# Altium footprint library P10_ATMEGA328P.PcbLib: 14 footprints
Each footprint in its own frame and in the unit in brackets; x right, y up, seen from the top. Pads: shape width x height; smd on the part's side, far side on the other; paste and mask are expansions set on the pad; w line width, h text height; cw(c..) or ccw(c..) is an arc to the next point about the centre after c.
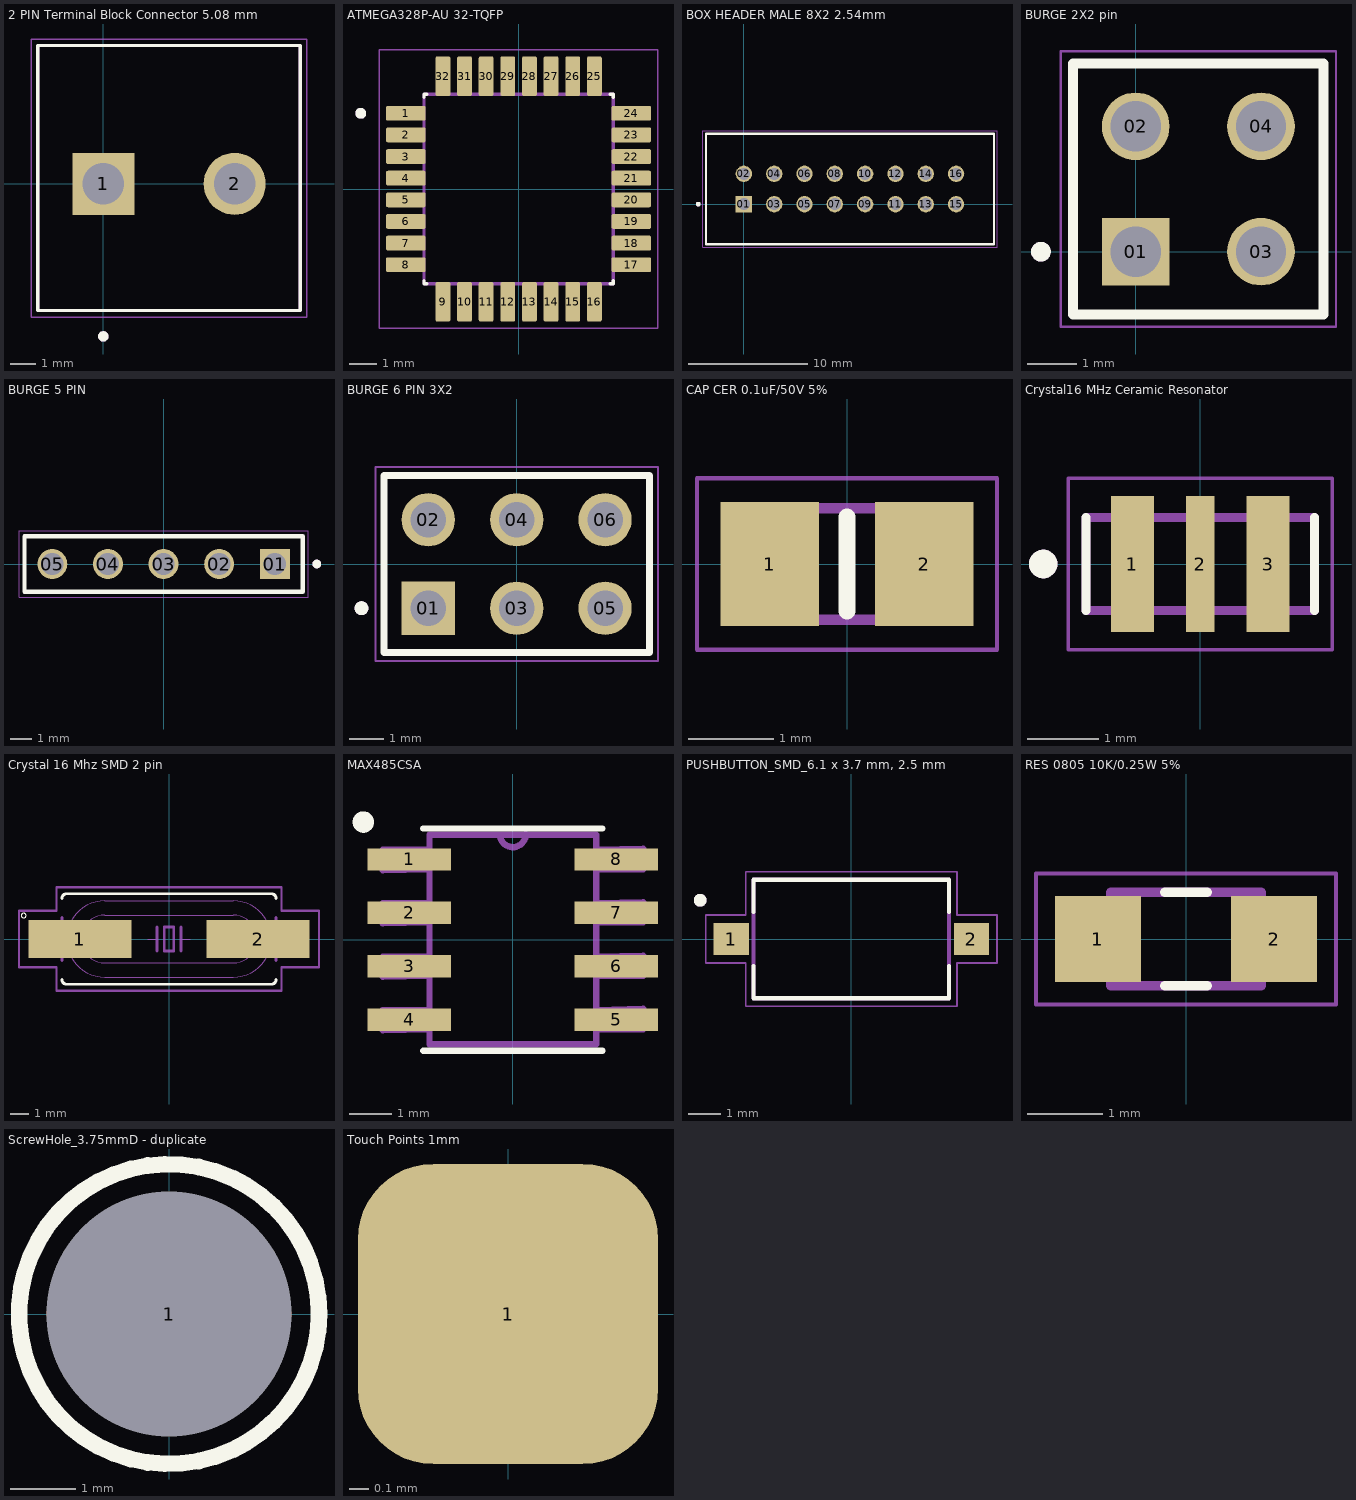
[diagram p0: the footprints below, top view; thin cyan lines are the x and y axes]

## 2 PIN Terminal Block Connector 5.08 mm [mm]
pads (2):
  rect 2.4x2.4 / inner round 2.4 / far side rect 2.4x2.4 hole 1.6: 1(0,0)
  round 2.4 hole 1.6: 2(5.08,0)
Top Overlay:
  circle w0.2: c0,-5.9 r0.1
  lines w0.127: -2.54,-4.9 -2.54,5.35 7.62,5.35 7.62,-4.9 -2.54,-4.9
Mechanical 13:
  circle w0.2: c0,-5.9 r0.1
  lines w0.127: -2.54,-4.9 -2.54,5.35 7.62,5.35 7.62,-4.9 -2.54,-4.9
Mechanical 15:
  lines w0.05: -2.79,-5.15 7.87,-5.15 7.87,5.6 -2.79,5.6 -2.79,-5.15
3D body "step_temp.STEP": height 14, standoff -3.7, extent -2.586,-5.17 8.174,5.08

## ATMEGA328P-AU 32-TQFP [mm] "AVR AVRÂ® ATmega Microcontroller IC 8-Bit 20MHz 32KB (16K x 16) FLASH 32-TQFP (7x7)QFP80P900X900X120-32N"
height 1.2
pads (32):
  rrect25% 1.47x0.55 smd: 1(-4.17,2.8) 2(-4.17,2) 3(-4.17,1.2) 4(-4.17,0.4) 5(-4.17,-0.4) 6(-4.17,-1.2) 7(-4.17,-2) 8(-4.17,-2.8) 17(4.17,-2.8) 18(4.17,-2) 19(4.17,-1.2) 20(4.17,-0.4) 21(4.17,0.4) 22(4.17,1.2) 23(4.17,2) 24(4.17,2.8)
  rrect25% 0.55x1.47 smd: 9(-2.8,-4.17) 10(-2,-4.17) 11(-1.2,-4.17) 12(-0.4,-4.17) 13(0.4,-4.17) 14(1.2,-4.17) 15(2,-4.17) 16(2.8,-4.17) 25(2.8,4.17) 26(2,4.17) 27(1.2,4.17) 28(0.4,4.17) 29(-0.4,4.17) 30(-1.2,4.17) 31(-2,4.17) 32(-2.8,4.17)
Top Overlay:
  circle w0.2: c-5.84,2.8 r0.1
  lines w0.127: -3.5,-3.395 -3.5,-3.5 -3.395,-3.5 ; -3.5,3.395 -3.5,3.5 -3.395,3.5 ; 3.395,-3.5 3.5,-3.5 3.5,-3.395 ; 3.395,3.5 3.5,3.5 3.5,3.395
Mechanical 13:
  circle w0.2: c-5.84,2.8 r0.1
  lines w0.127: -3.5,-3.5 -3.5,3.5 3.5,3.5 3.5,-3.5 -3.5,-3.5
Mechanical 15:
  lines w0.05: -5.155,-5.155 -5.155,5.155 5.155,5.155 5.155,-5.155 -5.155,-5.155
3D body "step_temp.STEP": height 1.2, standoff 0, extent -4.5,-4.5 4.5,4.5

## BOX HEADER MALE 8X2 2.54mm [mm] "BOX HEADER MALE 8X2 2.54mm 16 pin"
pads (16):
  rect 1.37x1.37 hole 1.02: 01(0,0)
  round 1.37 hole 1.02: 02(0,2.54) 03(2.54,0) 04(2.54,2.54) 05(5.08,0) 06(5.08,2.54) 07(7.62,0) 08(7.62,2.54) 09(10.16,0) 10(10.16,2.54) 11(12.7,0) 12(12.7,2.54) 13(15.24,0) 14(15.24,2.54) 15(17.78,0) 16(17.78,2.54)
Top Overlay:
  circle w0.2: c-3.825,0 r0.1
  lines w0.2: -3.175,-3.365 20.955,-3.365 20.955,5.905 -3.175,5.905 -3.175,-3.365
Mechanical 13:
  circle w0.2: c-3.825,0 r0.1
  lines w0.1: -3.175,-3.365 20.955,-3.365 20.955,5.905 -3.175,5.905 -3.175,-3.365
Mechanical 15:
  lines w0.05: -3.425,-3.615 21.205,-3.615 21.205,6.155 -3.425,6.155 -3.425,-3.615

## BURGE 2X2 pin [mm] "Connector Header Through Hole 4 position 0.100 (2.54mm), 4X2 PIN"
pads (4):
  rect 1.37x1.37 hole 1.02: 01(0,0)
  round 1.37 hole 1.02: 02(0,2.54) 03(2.54,0) 04(2.54,2.54)
Top Overlay:
  circle w0.2: c-1.92,0 r0.1
  lines w0.2: -1.27,-1.27 3.81,-1.27 3.81,3.81 -1.27,3.81 -1.27,-1.27
Mechanical 13:
  circle w0.2: c-1.92,0 r0.1
  lines w0.1: -1.27,-1.27 3.81,-1.27 3.81,3.81 -1.27,3.81 -1.27,-1.27
Mechanical 15:
  lines w0.05: -1.52,-1.52 4.06,-1.52 4.06,4.06 -1.52,4.06 -1.52,-1.52

## BURGE 5 PIN [mm] "MTSW-105-07-T-S-048 BURGE 5 PIN 2.54mm"
pads (5):
  rect 1.37x1.37 hole 1.02: 01(5.08,0)
  round 1.37 hole 1.02: 02(2.54,0) 03(0,0) 04(-2.54,0) 05(-5.08,0)
Top Overlay:
  circle w0.2: c7,0 r0.1
  lines w0.2: -6.35,-1.27 6.35,-1.27 6.35,1.27 -6.35,1.27 -6.35,-1.27
Mechanical 13:
  circle w0.2: c7,0 r0.1
  lines w0.1: -6.35,-1.27 -6.35,1.27 ; -6.35,-1.27 6.35,-1.27 ; -6.35,-1.27 -6.35,1.27 ; -6.35,1.27 6.35,1.27 ; -6.35,1.27 6.35,1.27 ; 6.35,-1.27 6.35,1.27 ; 6.35,-1.27 6.35,1.27
Mechanical 15:
  lines w0.05: -6.6,-1.52 6.6,-1.52 6.6,1.52 -6.6,1.52 -6.6,-1.52

## BURGE 6 PIN 3X2 [mm] "MTSW-103-X-X-D-X BURGE 6 PIN 3X2 2.54MM"
pads (6):
  rect 1.53x1.53 / inner round 1.53 / far side rect 1.53x1.53 hole 1.02: 01(-2.54,-1.27)
  round 1.53 hole 1.02: 02(-2.54,1.27) 03(0,-1.27) 04(0,1.27) 05(2.54,-1.27) 06(2.54,1.27)
Top Overlay:
  circle w0.2: c-4.46,-1.27 r0.1
  lines w0.2: -3.81,-2.54 3.81,-2.54 3.81,2.54 -3.81,2.54 -3.81,-2.54
Mechanical 13:
  circle w0.2: c-4.46,-1.27 r0.1
  lines w0.1: -3.81,-2.54 -3.81,2.54 3.81,2.54 3.81,-2.54 -3.81,-2.54
Mechanical 15:
  lines w0.05: -4.06,-2.79 4.06,-2.79 4.06,2.79 -4.06,2.79 -4.06,-2.79

## CAP CER 0.1uF/50V 5% [mm]
pads (2):
  rect 1.15x1.45 smd: 1(-0.9,0) 2(0.9,0)
Top Overlay:
  lines w0.2: 0,-0.55 0,0.55
Mechanical 13:
  region: -0.5,-0.65 -1,-0.65 -1,0.65 -0.5,0.65
  region: 1,-0.65 0.5,-0.65 0.5,0.65 1,0.65
  lines w0.127: -1,-0.65 1,-0.65 1,0.65 -1,0.65 -1,-0.65
Mechanical 15:
  lines w0.05: -1.75,-1 1.75,-1 1.75,1 -1.75,1 -1.75,-1
3D body "step_temp.STEP": height 1.35, standoff 0, extent -1,-0.625 1,0.625

## Crystal16 MHz Ceramic Resonator [mm] "Crystal 16 MHz Ceramic Resonator Built in Capacitor 15 pF Â±0.3% -20Â°C ~ 80Â°C Surface Mount-CSTCE16M0V53-R0CSTCE16M0V53-R0"
pads (3):
  rect 0.6x1.9 smd: 1(-0.95,0) 3(0.95,0)
  rect 0.4x1.9 smd: 2(0,0)
Top Overlay:
  circle w0.2: c-2.2,0 r0.1
  lines w0.127: -1.6,-0.65 -1.6,0.65 ; 1.6,-0.65 1.6,0.65
Mechanical 13:
  circle w0.2: c-2.2,0 r0.1
  lines w0.127: -1.6,-0.65 -1.6,0.65 1.6,0.65 1.6,-0.65 -1.6,-0.65
Mechanical 15:
  lines w0.05: -1.85,-1.2 -1.85,1.2 1.85,1.2 1.85,-1.2 -1.85,-1.2
3D body "step_temp.STEP": height 1, standoff 0, extent -1.6,-0.65 1.6,0.65

## Crystal 16 Mhz SMD 2 pin [mm] "16 MHz Â±30ppm Crystal 20pF 60 Ohms HC-49/US FOXSDLF/128-20 16 Mhz Crystal SMD –CSM-4ALX(28ALX) 12.5mmX4.85mmX4mm"
pads (2):
  rect 5.5x2 smd: 1(-4.75,0) 2(4.75,0)
Top Overlay:
  circle w0: c-7.75,1.25 r0.127
  lines w0.152: -5.715,-2.159 ccw(c-5.461,-2.159) -5.461,-2.413 5.461,-2.413 ccw(c5.461,-2.159) 5.715,-2.159 ; -5.715,2.159 cw(c-5.461,2.159) -5.461,2.413 5.461,2.413 cw(c5.461,2.159) 5.715,2.159
Mechanical 13:
  lines w0.051: -1.143,0 -0.635,0 ; 0.635,0 1.143,0 ; -5.114,-1.136 cw(c-3.429,0) -5.114,1.136 cw(c-3.429,0) -3.429,2.032 3.429,2.032 cw(c3.429,0) 5.114,1.136 cw(c3.429,0) 5.114,-1.136 cw(c3.429,0) 3.429,-2.032 -3.429,-2.032 cw(c-3.429,0) -5.114,-1.136 ; -3.986,-1.141 cw(c-3.429,0) -3.986,1.141 cw(c-3.429,0) -3.429,1.27 3.429,1.27 cw(c3.429,0) 3.986,1.141 cw(c3.429,0) 3.986,-1.141 cw(c3.429,0) 3.429,-1.27 -3.429,-1.27 cw(c-3.429,0) -3.986,-1.141
  lines w0.152: -5.715,-1.143 -5.715,1.143 ; -5.715,-0.381 -6.477,-0.381 -6.477,0.381 -5.715,0.381 ; -0.635,-0.635 -0.635,0 -0.635,0.635 ; 0.635,-0.635 0.635,0 0.635,0.635 ; 5.715,-1.143 5.715,-0.381 ; 5.715,1.143 5.715,0.381 ; 5.715,-0.381 6.477,-0.381 6.477,0.381 5.715,0.381 ; 5.715,-0.381 5.715,0.381 ; -0.254,-0.635 0.254,-0.635 0.254,0.635 -0.254,0.635 -0.254,-0.635
Mechanical 15:
  lines w0.127: -8,-1.5 -6,-1.5 -6,-2.75 6,-2.75 6,-1.5 8,-1.5 8,1.5 6,1.5 6,2.75 -6,2.75 -6,1.5 -8,1.5 -8,-1.5
3D body "step_temp.STEP": height 4.5, standoff 0, extent -6.75,-2.5 6.75,2.5

## MAX485CSA [mil] "MAX485CSA-RS-485/RS-422 Transceivers, SOIC-8"
pads (8):
  rect 78x21 smd: 1(-97,75) 2(-97,25) 3(-97,-25) 4(-97,-75) 5(97,-75) 6(97,-25) 7(97,25) 8(97,75)
Top Overlay:
  circle w10: c-140,110 r5
  lines w6: -84,-104 84,-104 ; -84,104 84,104
Mechanical 13:
  lines w6: -12,98.08 ccw(c0,98.5) 12,98.92 ; -122,-85 -122,-66 -78,-66 -78,-84 -122,-85 ; -122,-35 -122,-16 -78,-16 -78,-34 -122,-35 ; -122,15 -122,34 -78,34 -78,16 -122,15 ; -122,65 -122,84 -78,84 -78,66 -122,65 ; -78,-98 78,-98 78,98 -12,98 -78,98 -78,-98 ; 78,-84 78,-66 122,-65 122,-84 78,-84 ; 78,-34 78,-16 122,-15 122,-34 78,-34 ; 78,16 78,34 122,35 122,16 78,16 ; 78,66 78,84 122,85 122,66 78,66
3D body "step_temp.STEP": height 68.9, standoff 0, extent -118.11,-96.46 118.11,96.46

## PUSHBUTTON_SMD_6.1 x 3.7 mm, 2.5 mm [mm] "6.1 x 3.7 mm, 2.5 mm Actuator Height, 260 gf, Red, Surface Mount, SPST, Tactile Switch, TS09-63-25-R-260-SMT-TR"
height 2.5
pads (2):
  rect 1.1x1 smd: 1(-3.75,0) 2(3.75,0)
Top Overlay:
  circle w0.2: c-4.72,1.21 r0.1
  lines w0.127: -3.05,-0.85 -3.05,-1.85 3.05,-1.85 3.05,-0.85 ; -3.05,0.85 -3.05,1.85 3.05,1.85 3.05,0.85
Mechanical 13:
  circle w0.2: c-4.72,1.21 r0.1
  lines w0.127: -3.05,-1.85 3.05,-1.85 3.05,1.85 -3.05,1.85 -3.05,-1.85
Mechanical 15:
  lines w0.05: -4.55,-0.75 -4.55,0.75 -3.3,0.75 -3.3,2.1 3.3,2.1 3.3,0.75 4.55,0.75 4.55,-0.75 3.3,-0.75 3.3,-2.1 -3.3,-2.1 -3.3,-0.75 -4.55,-0.75
3D body "step_temp.STEP": height 2.5, standoff -0.05, extent -4.05,-1.85 4.05,1.85

## RES 0805 10K/0.25W 5% [mm] "RESISTOR, THICK FILM, 10K, 5%, 0805, FRESISTOR, THICK FILM, 10K, 5%, 0805, FULL REEL Product Range:PANASONIC - ERJ Series"
height 0.55
pads (2):
  rect 1.15x1.15 smd: 1(-1.175,0) 2(1.175,0)
Top Overlay:
  lines w0.127: -0.28,-0.625 0.28,-0.625 ; -0.28,0.625 0.28,0.625
Mechanical 13:
  lines w0.127: -1,-0.625 -1,0.625 1,0.625 1,-0.625 -1,-0.625
Mechanical 15:
  lines w0.05: -2,-0.875 -2,0.875 2,0.875 2,-0.875 -2,-0.875
3D body "step_temp.STEP": height 0.7, standoff 0, extent -1,-0.625 1,0.625

## ScrewHole_3.75mmD - duplicate [mm] "SCREW HEAD DIA 4.5MM, SREW LEG DIA 3 MM"
pads (1):
  round 3.75 hole 3.75 unplated: 1(0,0)
Top Overlay:
  circle w0.254: c0,0 r2.3

## Touch Points 1mm [mil] "Touch Points 0.75mm to1mm"
pads (1):
  rrect50% 60x60 smd: 1(0,0)